# Altium schematic symbol library AD8510ARZ-REEL.SchLib: 1 symbol
Pins are listed as number, name and electrical type; pins without a type are passive.

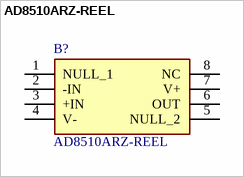
[diagram p0: symbol AD8510ARZ-REEL]

## AD8510ARZ-REEL
designator B?
Precision, Very Low Noise, Low Input Bias Current, Wide Bandwidth JFET Single Operational Amplifier; Manufacturer_Name: Analog Devices; Geometry.Height: 1.75mm; Mouser Part Number: 584-AD8510ARZ-R; Mouser Price/Stock: https://www.mouser.co.uk/ProductDetail/Analog-Devices/AD8510ARZ-REEL?qs=%2FtpEQrCGXCwXL7drMaFeVQ%3D%3D; Manufacturer_Part_Number: AD8510ARZ-REEL; Datasheet Link: https://www.analog.com/AD8510/datasheet
footprint SOIC127P600X175-8N
pins: 1 NULL_1, 2 -IN, 3 +IN, 4 V-, 5 NULL_2, 6 OUT, 7 V+, 8 NC